# Altium schematic symbol library AltiumDesigner.SchLib: 2 symbols
Pins are listed as number, name and electrical type; pins without a type are passive.

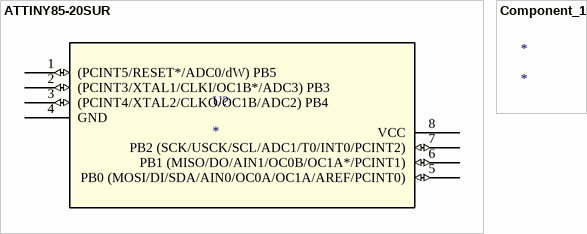
[diagram p0: symbols ATTINY85-20SUR to Component_1]

## ATTINY85-20SUR
designator U?
Imported; Manufacturer_Part_Number: ATTINY85-20SUR; Vendor: Atmel; Built_By: EMA_UL_Team; C: Copyright (C) 2015 Accelerated Designs. All rights reserved; RefDes: RefDes; Type: DEV; Value: Value
footprint 8S2
pins: 1 (PCINT5/RESET*/ADC0/dW) PB5 (io), 2 (PCINT3/XTAL1/CLKI/OC1B*/ADC3) PB3 (io), 3 (PCINT4/XTAL2/CLKO/OC1B/ADC2) PB4 (io), 4 GND (power), 5 PB0 (MOSI/DI/SDA/AIN0/OC0A/OC1A/AREF/PCINT0) (io), 6 PB1 (MISO/DO/AIN1/OC0B/OC1A*/PCINT1) (io), 7 PB2 (SCK/USCK/SCL/ADC1/T0/INT0/PCINT2) (io), 8 VCC (power)

## Component_1
designator *